# EAGLE library part SATA (library heck)
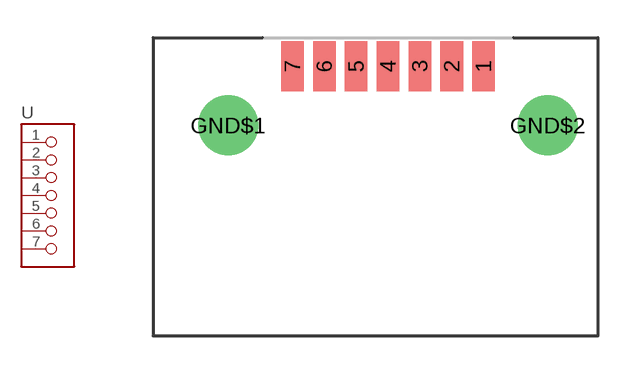
[diagram p19: symbol with the pads of SATA_HORIZONTAL; footprint SATA_HORIZONTAL]

Designator prefix -

## SATA_HORIZONTAL  [SATA_HORIZONTAL]
1  1  pas
2  2  pas
3  3  pas
4  4  pas
5  5  pas
6  6  pas
7  7  pas

## Footprint SATA_HORIZONTAL (pad centres in mm)
smd 0.9 x 2: 1 3.81,2.36; 2 2.54,2.36; 3 1.27,2.36; 4 0,2.36; 5 -1.27,2.36; 6 -2.54,2.36; 7 -3.81,2.36
drill 1.6: GND$1 -6.37,0; GND$2 6.37,0